# Altium schematic symbol library Amp_Comp.SchLib: 8 symbols
Pins are listed as number, name and electrical type; pins without a type are passive.

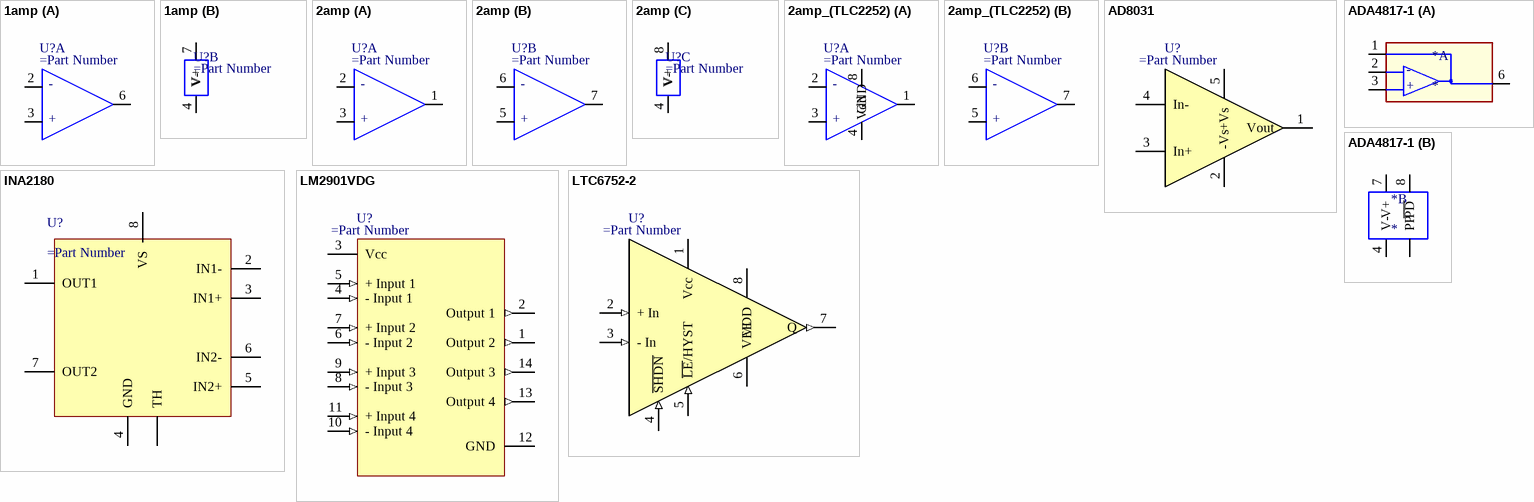
[diagram p0: symbols 1amp to LTC6752-2]

## 1amp
designator U?
part A pins: 2, 3, 6
part B pins: 4 V-, 7 V+
part A text: -; +

## 2amp
designator U?
part A pins: 1, 2, 3
part B pins: 5, 6, 7
part C pins: 4 V-, 8 V+
part A text: -; +
part B text: -; +

## 2amp_(TLC2252)
designator U?
part A pins: 1, 2, 3, 4 GND, 8 Vdd
part B pins: 5, 6, 7
part A text: -; +
part B text: -; +

## AD8031
designator U?
pins: 1 Vout, 2 -Vs, 3 In+, 4 In-, 5 +Vs

## ADA4817-1
designator *
part A pins: 1 FB, 2, 3, 6
part B pins: 4 V-, 7 V+, 8 ~{PD}, PP
part A text: -; +

## INA2180
designator U?
pins: 1 OUT1, 2 IN1-, 3 IN1+, 4 GND, 5 IN2+, 6 IN2-, 7 OUT2, 8 VS, TH

## LM2901VDG
designator U?
pins: 1 Output 2 (out), 2 Output 1 (out), 3 Vcc, 4 - Input 1 (in), 5 + Input 1 (in), 6 - Input 2 (in), 7 + Input 2 (in), 8 - Input 3 (in), 9 + Input 3 (in), 10 - Input 4 (in), 11 + Input 4 (in), 12 GND, 13 Output 4 (out), 14 Output 3 (out)

## LTC6752-2
designator U?
pins: 1 Vcc, 2 + In (in), 3 - In (in), 4 ~{SHDN} (in), 5 ~{LE}/HYST (in), 6 VEE, 7 Q (out), 8 VDD